# EAGLE library part LOGIC_74LVC2G04 (library akita)
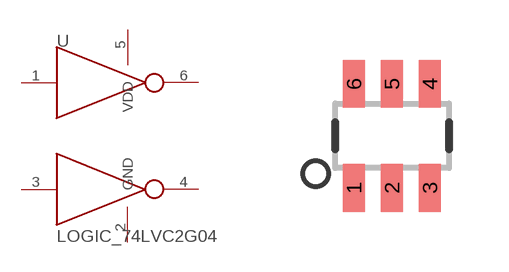
[diagram p46: symbol with the pads of SOT23-6; footprint SOT23-6]

Designator prefix -

## LOGIC_74LVC2G04  [SOT23-6]
1  A1  in
2  GND  pwr
3  A2  in
4  Y2  out
5  VDD  pwr
6  Y1  out

## Footprint SOT23-6 (pad centres in mm)
smd 0.55 x 1.2: 1 -0.95,-1.3; 2 0,-1.3; 3 0.95,-1.3; 4 0.95,1.3; 5 0,1.3; 6 -0.95,1.3